# EAGLE library part FT232HQ-REEL (library FT232HQ)
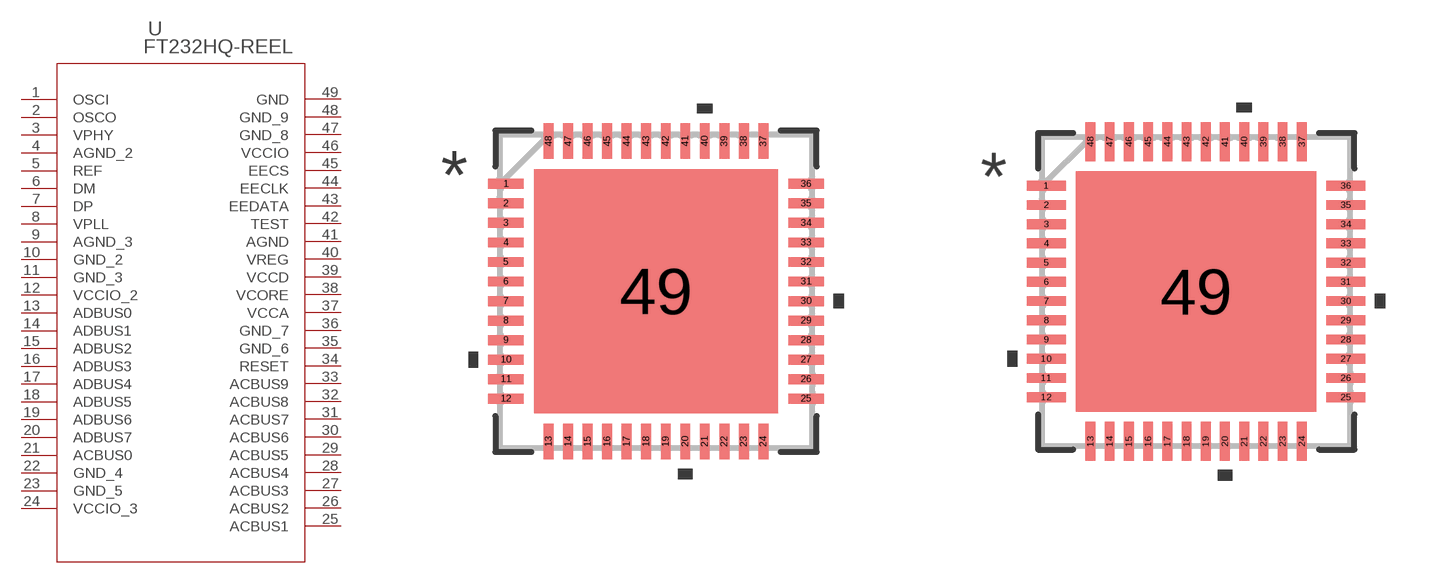
[diagram p0: symbol with the pads of QFN48_FT232HQ_FTD; footprints QFN48_FT232HQ_FTD, QFN48_FT232HQ_FTD-M]

Designator prefix U

## FT232HQ-REEL (COPYRIGHT: Copyright (C) 2023 Ultra Librarian. All rights reserved.; MANUFACTURER_PART_NUMBER: FT232HQ-REEL; MFR_NAME: FTDI, Future Technology Devices International Ltd)  [QFN48_FT232HQ_FTD]
1  OSCI  in
2  OSCO  out
3  VPHY  pwr
4  AGND_2  pas
5  REF  in
6  DM
7  DP
8  VPLL  pwr
9  AGND_3  pas
10  GND_2  pas
11  GND_3  pas
12  VCCIO_2  pwr
13  ADBUS0
14  ADBUS1
15  ADBUS2
16  ADBUS3
17  ADBUS4
18  ADBUS5
19  ADBUS6
20  ADBUS7
21  ACBUS0
22  GND_4  pas
23  GND_5  pas
24  VCCIO_3  pwr
25  ACBUS1
26  ACBUS2
27  ACBUS3
28  ACBUS4
29  ACBUS5
30  ACBUS6
31  ACBUS7
32  ACBUS8
33  ACBUS9
34  RESET  in
35  GND_6  pas
36  GND_7  pas
37  VCCA  pwr
38  VCORE  pwr
39  VCCD  pwr
40  VREG  pwr
41  AGND  pas
42  TEST  in
43  EEDATA
44  EECLK  out
45  EECS
46  VCCIO  pwr
47  GND_8  pas
48  GND_9  pas
49  GND  pas

## FT232HQ-REELQFN48_FT232HQ_FTD-M (COPYRIGHT: Copyright (C) 2023 Ultra Librarian. All rights reserved.; MANUFACTURER_PART_NUMBER: FT232HQ-REEL; MFR_NAME: FTDI, Future Technology Devices International Ltd)  [QFN48_FT232HQ_FTD-M]
Pads as for QFN48_FT232HQ_FTD

## FT232HQ-REELQFN48_FT232HQ_FTD-L (COPYRIGHT: Copyright (C) 2023 Ultra Librarian. All rights reserved.; MANUFACTURER_PART_NUMBER: FT232HQ-REEL; MFR_NAME: FTDI, Future Technology Devices International Ltd)  [QFN48_FT232HQ_FTD-L]
Pads as for QFN48_FT232HQ_FTD

## Footprint QFN48_FT232HQ_FTD (pad centres in mm)
smd 0.91 x 0.255: 1 -3.846,2.75; 2 -3.846,2.25; 3 -3.846,1.75; 4 -3.846,1.25; 5 -3.846,0.75; 6 -3.846,0.25; 7 -3.846,-0.25; 8 -3.846,-0.75; 9 -3.846,-1.25; 10 -3.846,-1.75; 11 -3.846,-2.25; 12 -3.846,-2.75; 25 3.846,-2.75; 26 3.846,-2.25; 27 3.846,-1.75; 28 3.846,-1.25; 29 3.846,-0.75; 30 3.846,-0.25; 31 3.846,0.25; 32 3.846,0.75; 33 3.846,1.25; 34 3.846,1.75; 35 3.846,2.25; 36 3.846,2.75
smd 0.255 x 0.91: 13 -2.75,-3.846; 14 -2.25,-3.846; 15 -1.75,-3.846; 16 -1.25,-3.846; 17 -0.75,-3.846; 18 -0.25,-3.846; 19 0.25,-3.846; 20 0.75,-3.846; 21 1.25,-3.846; 22 1.75,-3.846; 23 2.25,-3.846; 24 2.75,-3.846; 37 2.75,3.846; 38 2.25,3.846; 39 1.75,3.846; 40 1.25,3.846; 41 0.75,3.846; 42 0.25,3.846; 43 -0.25,3.846; 44 -0.75,3.846; 45 -1.25,3.846; 46 -1.75,3.846; 47 -2.25,3.846; 48 -2.75,3.846
smd 6.248 x 6.248: 49 0,0

## Footprint QFN48_FT232HQ_FTD-M (pad centres in mm)
smd 1.01 x 0.255: 1 -3.896,2.75; 2 -3.896,2.25; 3 -3.896,1.75; 4 -3.896,1.25; 5 -3.896,0.75; 6 -3.896,0.25; 7 -3.896,-0.25; 8 -3.896,-0.75; 9 -3.896,-1.25; 10 -3.896,-1.75; 11 -3.896,-2.25; 12 -3.896,-2.75; 25 3.896,-2.75; 26 3.896,-2.25; 27 3.896,-1.75; 28 3.896,-1.25; 29 3.896,-0.75; 30 3.896,-0.25; 31 3.896,0.25; 32 3.896,0.75; 33 3.896,1.25; 34 3.896,1.75; 35 3.896,2.25; 36 3.896,2.75
smd 0.255 x 1.01: 13 -2.75,-3.896; 14 -2.25,-3.896; 15 -1.75,-3.896; 16 -1.25,-3.896; 17 -0.75,-3.896; 18 -0.25,-3.896; 19 0.25,-3.896; 20 0.75,-3.896; 21 1.25,-3.896; 22 1.75,-3.896; 23 2.25,-3.896; 24 2.75,-3.896; 37 2.75,3.896; 38 2.25,3.896; 39 1.75,3.896; 40 1.25,3.896; 41 0.75,3.896; 42 0.25,3.896; 43 -0.25,3.896; 44 -0.75,3.896; 45 -1.25,3.896; 46 -1.75,3.896; 47 -2.25,3.896; 48 -2.75,3.896
smd 6.248 x 6.248: 49 0,0

## Footprint QFN48_FT232HQ_FTD-L (pad centres in mm)
smd 0.81 x 0.255: 1 -3.796,2.75; 2 -3.796,2.25; 3 -3.796,1.75; 4 -3.796,1.25; 5 -3.796,0.75; 6 -3.796,0.25; 7 -3.796,-0.25; 8 -3.796,-0.75; 9 -3.796,-1.25; 10 -3.796,-1.75; 11 -3.796,-2.25; 12 -3.796,-2.75; 25 3.796,-2.75; 26 3.796,-2.25; 27 3.796,-1.75; 28 3.796,-1.25; 29 3.796,-0.75; 30 3.796,-0.25; 31 3.796,0.25; 32 3.796,0.75; 33 3.796,1.25; 34 3.796,1.75; 35 3.796,2.25; 36 3.796,2.75
smd 0.255 x 0.81: 13 -2.75,-3.796; 14 -2.25,-3.796; 15 -1.75,-3.796; 16 -1.25,-3.796; 17 -0.75,-3.796; 18 -0.25,-3.796; 19 0.25,-3.796; 20 0.75,-3.796; 21 1.25,-3.796; 22 1.75,-3.796; 23 2.25,-3.796; 24 2.75,-3.796; 37 2.75,3.796; 38 2.25,3.796; 39 1.75,3.796; 40 1.25,3.796; 41 0.75,3.796; 42 0.25,3.796; 43 -0.25,3.796; 44 -0.75,3.796; 45 -1.25,3.796; 46 -1.75,3.796; 47 -2.25,3.796; 48 -2.75,3.796
smd 6.248 x 6.248: 49 0,0